# EAGLE library part RTC_DS_1337 (library Bibliothek)
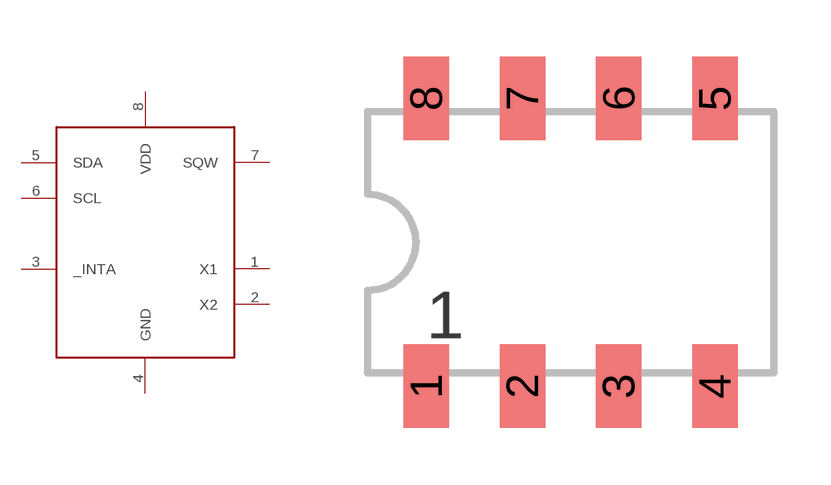
[diagram p0: symbol with the pads of DIP8; footprint DIP8]

Designator prefix -

## RTC_DS_1337  [DIP8]
1  X1
2  X2
3  _INTA  out
4  GND
5  SDA
6  SCL
7  SQW
8  VDD

## Footprint DIP8 (pad centres in mm)
SMD DIL08 dual in line package'
smd 1.2 x 2.2: 1 -3.81,-3.8; 2 -1.27,-3.8; 3 1.27,-3.8; 4 3.81,-3.8; 5 3.81,3.8; 6 1.27,3.8; 7 -1.27,3.8; 8 -3.81,3.8